# Altium schematic symbol library IRF Family.SchLib: 2 symbols
Pins are listed as number, name and electrical type; pins without a type are passive.

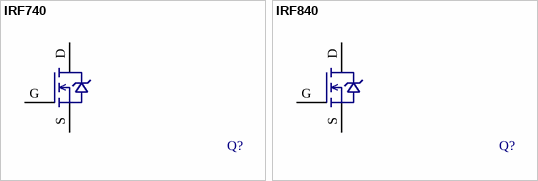
[diagram p0: symbols IRF740 to IRF840]

## IRF740
designator Q?  (value not drawn)
N-Channel 400V 10A (Tc) 125W (Tc) Through Hole TO-220AB; Manufacturer 1: Vishay Siliconix; Manufacturer 1 PN: IRF740PBF; ComponentLink1Description: Datasheet; ComponentLink1URL: http://www.vishay.com/docs/91054/91054.pdf; Digikey PN: IRF740PBF-ND; Current: 10A; Voltage: 400V
footprint IRF740 (N-Channel 400V 10A (Tc) 125W (Tc) Through Hole TO-220AB)
pins: D (power), G (power), S (power)

## IRF840
designator Q?  (value not drawn)
N-Channel 500V 8A (Tc) 125W (Tc) Through Hole TO-220AB; Manufacturer 1: Vishay Siliconix; Manufacturer 1 PN: IRF840APBF; Digikey PN: IRF840APBF-ND; Current: 8A; Voltage: 500V; ComponentLink1Description: Datasheet; ComponentLink1URL: http://www.vishay.com/docs/91065/91065.pdf
footprint IRF840 (N-Channel 500V 8A (Tc) 125W (Tc) Through Hole TO-220AB)
pins: D (power), G (power), S (power)